# Altium schematic symbol library conn-bnc_0.Schlib: 1 symbol
Pins are listed as number, name and electrical type; pins without a type are passive.

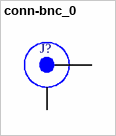
[diagram p0: symbol conn-bnc_0]

## conn-bnc_0
designator J?  (value not drawn)
BNC Connector
pins: 1, 2